# Altium footprint library Mercury_AD_BaseBoard_PCBLIB.PcbLib: 62 footprints (part 3 of 4)
Each footprint in its own frame and in the unit in brackets; x right, y up, seen from the top. Pads: shape width x height; smd on the part's side, far side on the other; paste and mask are expansions set on the pad; w line width, h text height; cw(c..) or ccw(c..) is an arc to the next point about the centre after c.
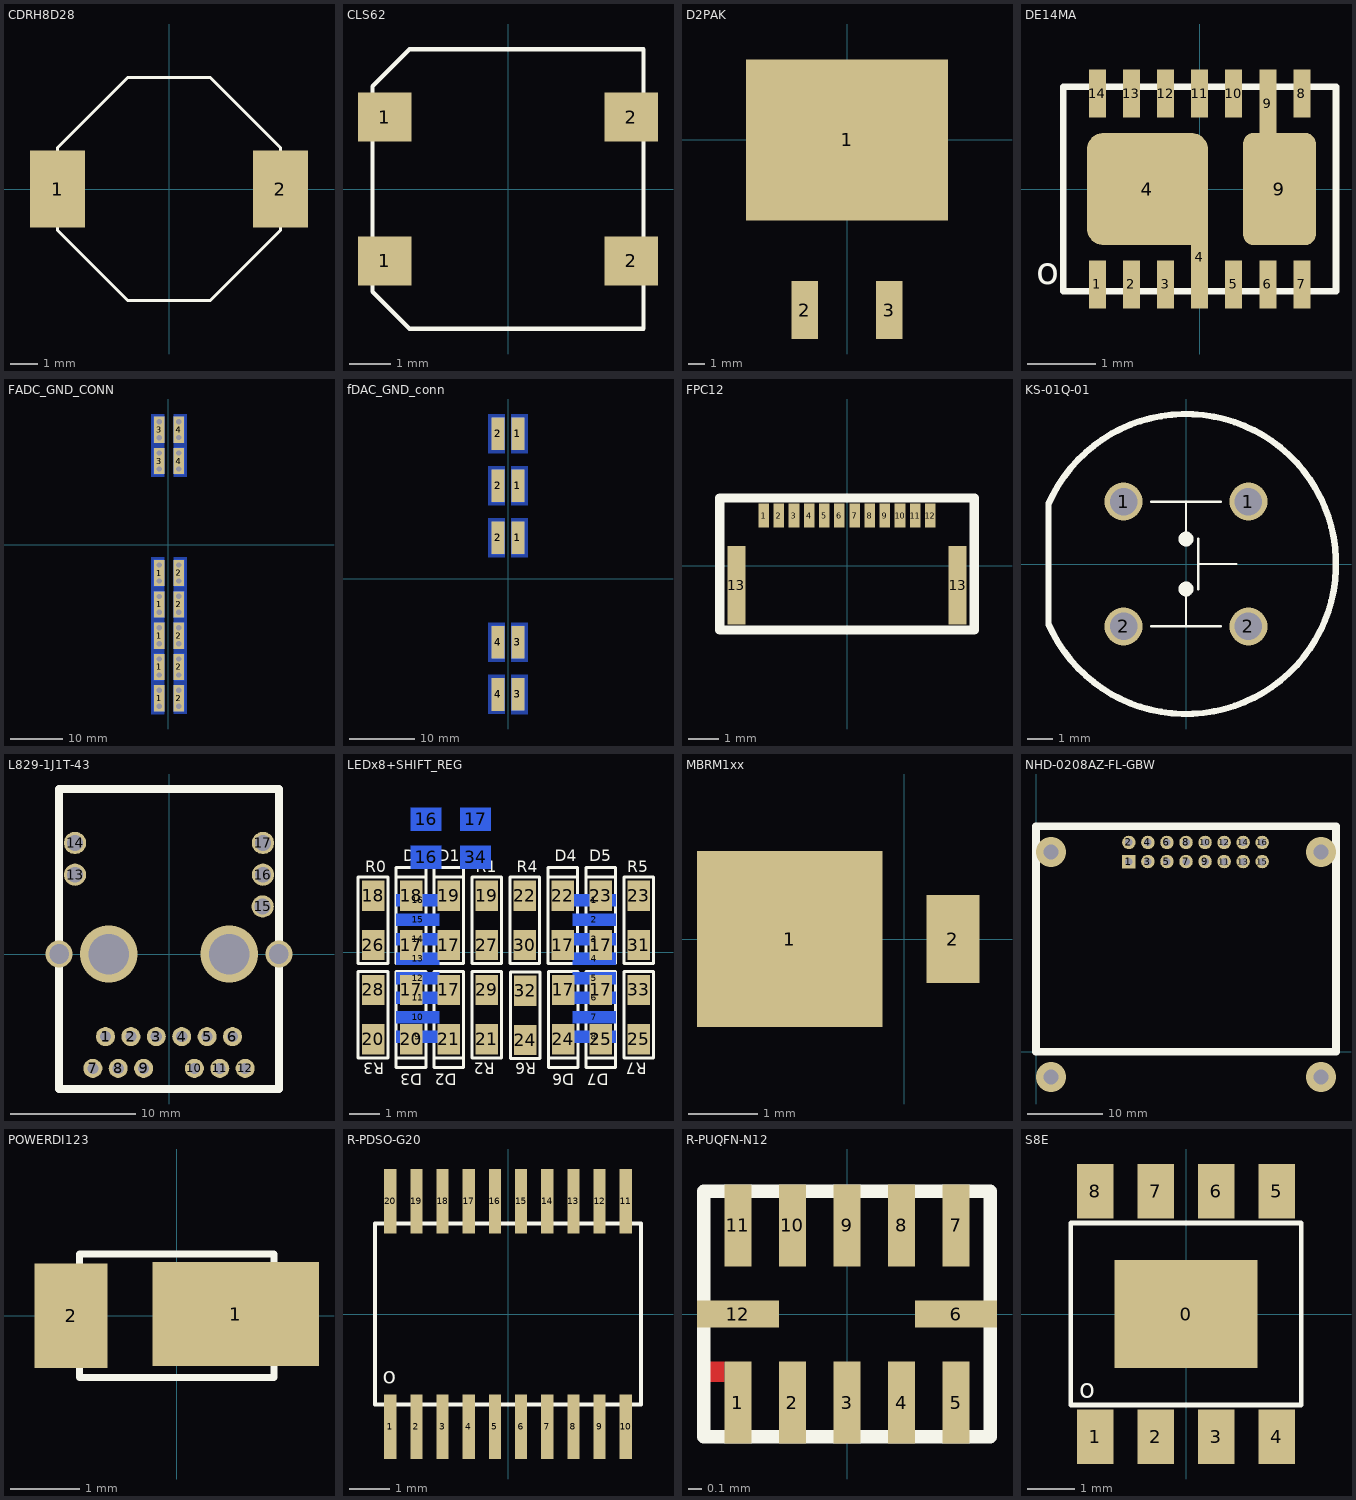
[diagram p2: the footprints below, top view; thin cyan lines are the x and y axes]

## CDRH8D28 [mm]
pads (2):
  rect 2x2.8 smd: 1(-4.05,0) 2(4.05,0)
Top Overlay:
  lines w0.1: -4.05,-1.5 -4.05,1.5 -1.5,4.05 1.5,4.05 4.05,1.5 4.05,-1.5 1.5,-4.05 -1.5,-4.05 -4.05,-1.5

## CLS62 [mm]
pads (4):
  rect 1.3x1.2 smd mask+0.07: 1(-3,-1.75) 1(-3,1.75) 2(3,-1.75) 2(3,1.75)
Top Overlay:
  lines w0.1: -3.3,-2.5 -3.3,2.5 -2.4,3.4 3.3,3.4 3.3,-3.4 -2.4,-3.4 -3.3,-2.5

## D2PAK [mm]
pads (3):
  rect 12.2x9.75 smd: 1(0,0)
  rect 1.6x3.5 smd: 2(-2.54,-10.275) 3(2.54,-10.275)

## DE14MA [mm]
pads (16):
  rect 0.25x0.7 smd mask+0.07: 1(-1.5,-1.4) 2(-1,-1.4) 3(-0.5,-1.4) 5(0.5,-1.4) 6(1,-1.4) 7(1.5,-1.4) 8(1.5,1.4) 10(0.5,1.4) 11(0,1.4) 12(-0.5,1.4) 13(-1,1.4) 14(-1.5,1.4)
  rrect30% 1.78x1.65 smd mask+0.07: 4(-0.765,0)
  rect 0.25x1.5 smd mask+0.07: 4(0,-1)
  rect 0.25x1 smd mask+0.07: 9(1,1.25)
  rrect30% 1.07x1.65 smd mask+0.07: 9(1.17,0)
Top Overlay:
  lines w0.1: -2,-1.5 2,-1.5 2,1.5 -2,1.5 -2,-1.5
  text "o" at -2.4,-1.395 h0.4

## FADC_GND_CONN [mm]
pads (28):
  rect 2x5 smd: 1(-1.736,-23.412) 1(-1.736,-11.448) 1(-1.736,-29.4) 1(-1.736,-17.437) 1(-1.736,-5.448) 2(2.014,-29.398) 2(2.014,-23.403) 2(2.014,-17.434) 2(2.014,-11.44) 2(2.014,-5.44) 3(-1.736,15.953) 3(-1.736,21.953) 4(2.014,15.962) 4(2.014,21.962)
  rect 2x5 smd far side: 1(-1.736,-23.412) 1(-1.736,-11.448) 1(-1.736,-29.4) 1(-1.736,-17.437) 1(-1.736,-5.448) 2(2.014,-29.398) 2(2.014,-23.403) 2(2.014,-17.434) 2(2.014,-11.44) 2(2.014,-5.44) 3(-1.736,15.953) 3(-1.736,21.953) 4(2.014,15.962) 4(2.014,21.962)
via -1.736,14.437 diameter 1.5 hole 1
via 2.014,14.446 diameter 1.5 hole 1
via -1.736,17.488 diameter 1.5 hole 1
via 2.014,17.497 diameter 1.5 hole 1
via -1.736,20.438 diameter 1.5 hole 1
via 2.014,20.446 diameter 1.5 hole 1
via -1.736,23.489 diameter 1.5 hole 1
via 2.014,23.497 diameter 1.5 hole 1
via 2.014,-12.956 diameter 1.5 hole 1
via 2.014,-9.905 diameter 1.5 hole 1
via -1.736,-12.964 diameter 1.5 hole 1
via -1.736,-9.913 diameter 1.5 hole 1
via 2.014,-6.955 diameter 1.5 hole 1
via 2.014,-3.905 diameter 1.5 hole 1
via 2.014,-21.868 diameter 1.5 hole 1
via 2.014,-24.919 diameter 1.5 hole 1
via -1.736,-6.964 diameter 1.5 hole 1
via -1.736,-3.913 diameter 1.5 hole 1
via 2.014,-18.95 diameter 1.5 hole 1
via 2.014,-15.899 diameter 1.5 hole 1
via -1.736,-30.916 diameter 1.5 hole 1
via -1.736,-27.865 diameter 1.5 hole 1
via 2.014,-30.913 diameter 1.5 hole 1
via 2.014,-27.863 diameter 1.5 hole 1
via -1.736,-24.927 diameter 1.5 hole 1
via -1.736,-21.877 diameter 1.5 hole 1
via -1.736,-18.953 diameter 1.5 hole 1
via -1.736,-15.902 diameter 1.5 hole 1
Bottom Layer:
  pour cut-out: -0.736,-26.901 -0.736,-26.4 -3.236,-26.4 -3.236,-32.4 -0.736,-32.4
  pour cut-out: -0.736,-20.913 -0.736,-20.412 -3.236,-20.412 -3.236,-26.412 -0.736,-26.412
  pour cut-out: -0.736,-14.938 -0.736,-14.437 -3.236,-14.437 -3.236,-20.437 -0.736,-20.437
  pour cut-out: -0.736,-8.949 -0.736,-8.448 -3.236,-8.448 -3.236,-14.448 -0.736,-14.448
  pour cut-out: -0.736,-2.949 -0.736,-2.448 -3.236,-2.448 -3.236,-8.448 -0.736,-8.448
  pour cut-out: -0.736,18.452 -0.736,18.953 -3.236,18.953 -3.236,12.953 -0.736,12.953
  pour cut-out: -0.736,24.453 -0.736,24.954 -3.236,24.954 -3.236,18.954 -0.736,18.954
  pour cut-out: 1.014,19.463 1.014,18.962 3.514,18.962 3.514,24.962 1.014,24.962
  pour cut-out: 1.014,13.462 1.014,12.961 3.514,12.961 3.514,18.961 1.014,18.961
  pour cut-out: 1.014,-7.939 1.014,-8.44 3.514,-8.44 3.514,-2.44 1.014,-2.44
  pour cut-out: 1.014,-13.939 1.014,-14.44 3.514,-14.44 3.514,-8.44 1.014,-8.44
  pour cut-out: 1.014,-19.934 1.014,-20.435 3.514,-20.435 3.514,-14.435 1.014,-14.435
  pour cut-out: 1.014,-25.903 1.014,-26.404 3.514,-26.404 3.514,-20.404 1.014,-20.404
  pour cut-out: 1.014,-31.897 1.014,-32.398 3.514,-32.398 3.514,-26.398 1.014,-26.398

## fDAC_GND_conn [mm]
pads (20):
  rect 2x5 smd: 1(1.518,6.249) 1(1.518,14.249) 1(1.518,22.249) 2(-1.518,6.247) 2(-1.518,14.247) 2(-1.518,22.247) 3(1.518,-17.751) 3(1.518,-9.751) 4(-1.518,-17.753) 4(-1.518,-9.753)
  rect 2x5 smd far side: 1(1.518,6.249) 1(1.518,14.249) 1(1.518,22.249) 2(-1.518,6.251) 2(-1.518,14.251) 2(-1.518,22.251) 3(1.518,-17.751) 3(1.518,-9.751) 4(-1.518,-17.749) 4(-1.518,-9.749)
Bottom Layer:
  pour cut-out: 0.518,-12.25 0.518,-12.751 3.018,-12.751 3.018,-6.751 0.518,-6.751
  pour cut-out: 0.518,3.75 0.518,3.249 3.018,3.249 3.018,9.249 0.518,9.249
  pour cut-out: 0.518,11.75 0.518,11.249 3.018,11.249 3.018,17.249 0.518,17.249
  pour cut-out: 0.518,19.75 0.518,19.249 3.018,19.249 3.018,25.249 0.518,25.249
  pour cut-out: -0.518,24.75 -0.518,25.251 -3.018,25.251 -3.018,19.251 -0.518,19.251
  pour cut-out: -0.518,16.75 -0.518,17.251 -3.018,17.251 -3.018,11.251 -0.518,11.251
  pour cut-out: -0.518,8.75 -0.518,9.251 -3.018,9.251 -3.018,3.251 -0.518,3.251
  pour cut-out: -0.518,-7.25 -0.518,-6.749 -3.018,-6.749 -3.018,-12.749 -0.518,-12.749
  pour cut-out: -0.518,-15.25 -0.518,-14.749 -3.018,-14.749 -3.018,-20.749 -0.518,-20.749
  pour cut-out: 0.518,-20.25 0.518,-20.751 3.018,-20.751 3.018,-14.751 0.518,-14.751

## FPC12 [mm]
pads (14):
  rect 0.35x0.8 smd: 1(-2.75,1.65) 2(-2.25,1.65) 3(-1.75,1.65) 4(-1.25,1.65) 5(-0.75,1.65) 6(-0.25,1.65) 7(0.25,1.65) 8(0.75,1.65) 9(1.25,1.65) 10(1.75,1.65) 11(2.25,1.65) 12(2.75,1.65)
  rect 0.6x2.6 smd: 13(-3.65,-0.65) 13(3.65,-0.65)
Top Overlay:
  lines w0.3: 4.2,2.225 4.2,-2.125 -4.2,-2.125 -4.2,2.225 4.21,2.225

## KS-01Q-01 [mm]
pads (4):
  round 1.524 hole 1.1: 1(-2.5,2.5) 1(2.5,2.5) 2(-2.5,-2.5) 2(2.5,-2.5)
Top Overlay:
  circle w0.4: c0,-1 r0.1
  circle w0.4: c0,1 r0.1
  lines w0.1: -1.4,-2.5 1.4,-2.5 ; -1.4,2.5 1.4,2.5 ; 0,-2.5 0,-1 ; 0,1 0,2.5 ; 0.5,-1 0.5,1 ; 0.5,0 2,0
  lines w0.254: -5.5,-2.4 -5.5,2.4 ; -5.499,-2.4 ccw(c0,0) -5.499,2.4

## L829-1J1T-43 [mil]
pads (17):
  round 60 hole 35: 1(-200,-260) 2(-120,-260) 3(-40,-260) 4(40,-260) 5(120,-260) 6(200,-260) 7(-240,-360) 8(-160,-360) 9(-80,-360) 10(80,-360) 11(160,-360) 12(240,-360)
  round 70 hole 50: 13(-296,250) 14(-296,350) 15(295,150) 16(296,250) 17(296,350)
via -190,0 diameter 180 hole 128
via 190,0 diameter 180 hole 128
via -346,0 diameter 85 hole 62
via 346,0 diameter 85 hole 62
Top Overlay:
  lines w25: -346,-425 -346,520 346,520 346,-425 -346,-425

## LEDx8+SHIFT_REG [mil]
pads (52):
  rect 57.09x15.75 smd far side: 1(456.14,68.32) 4(456.14,-8.45)
  rect 57.09x15.75 smd far side mask+2.76: 2(456.14,42.73) 3(456.14,17.14) 5(456.14,-34.04) 6(456.14,-59.63) 7(456.14,-85.22) 8(456.14,-110.81) 9(223.86,-110.81) 10(223.86,-85.22) 11(223.86,-59.63) 12(223.86,-34.04) 13(223.86,-8.45) 14(223.86,17.14) 15(223.86,42.73) 16(223.86,68.32)
  rect 40x30 smd far side mask+2.76: 16(235,125) 16(235,175) 17(300,175) 34(300,125)
  rect 30x40 smd mask+2.76: 17(215.31,-49.59) 17(215.31,9.59) 17(264.69,-49.59) 17(264.69,9.59) 17(414.69,9.59) 17(415.31,-49.59) 17(464.69,-49.59) 17(464.69,9.59) 18(165.31,74.59) 18(215.31,74.59) 19(264.69,74.59) 19(314.69,74.59) 20(165.31,-114.59) 20(215.31,-114.59) 21(264.69,-114.59) 21(314.69,-114.59) 22(364.69,74.59) 22(414.69,74.59) 23(464.69,74.59) 23(514.68,74.59) 24(365.31,-115.41) 24(415.31,-114.59) 25(464.69,-114.59) 25(514.68,-114.59) 26(165.31,9.59) 27(314.69,9.59) 28(165.31,-49.59) 29(314.69,-49.59) 30(364.69,9.59) 31(514.68,9.59) 32(365.31,-50.41) 33(514.68,-49.59)
Top Overlay:
  lines w3.94: 195.63,-139.17 235,-139.17 ; 195.63,99.17 235,99.17 ; 245,-139.17 284.37,-139.17 ; 245,99.17 284.37,99.17 ; 395,99.17 434.37,99.17 ; 395.63,-139.17 435,-139.17 ; 445,-139.17 484.37,-139.17 ; 445,99.17 484.37,99.17 ; 145.63,-139.17 185,-139.17 185,-25 145.63,-25 145.63,-139.17 ; 145.63,-15 145.63,99.17 185,99.17 185,-15 145.63,-15 ; 195.63,-151.77 235,-151.77 235,-25 195.63,-25 195.63,-151.77 ; 195.63,-15 235,-15 235,111.77 195.63,111.77 195.63,-15 ; 245,-151.77 284.37,-151.77 284.37,-25 245,-25 245,-151.77 ; 245,-15 245,111.77 284.37,111.77 284.37,-15 245,-15 ; 295,-139.17 334.37,-139.17 334.37,-25 295,-25 295,-139.17 ; 295,-15 334.37,-15 334.37,99.17 295,99.17 295,-15 ; 345,-15 384.37,-15 384.37,99.17 345,99.17 345,-15 ; 345.63,-140 385,-140 385,-25.83 345.63,-25.83 345.63,-140 ; 395,-15 395,111.77 434.37,111.77 434.37,-15 395,-15 ; 395.63,-151.77 435,-151.77 435,-25 395.63,-25 395.63,-151.77 ; 445,-151.77 484.37,-151.77 484.37,-25 445,-25 445,-151.77 ; 445,-15 445,111.77 484.37,111.77 484.37,-15 445,-15 ; 495,-139.17 534.37,-139.17 534.37,-25 495,-25 495,-139.17 ; 495,-15 534.37,-15 534.37,99.17 495,99.17 495,-15
  text "R0" at 155,105 h15
  text "D0" at 205,120 h15
  text "D1" at 250,120 h15
  text "R1" at 300,105 h15
  text "R5" at 499.37,105 h15
  text "D5" at 449.37,120 h15
  text "D4" at 404.37,120 h15
  text "R4" at 354.37,105 h15
  text "R3" at 180,-145 h15
  text "D3" at 230,-160 h15
  text "D2" at 275,-160 h15
  text "R2" at 325,-145 h15
  text "R6" at 380,-145 h15
  text "D6" at 430,-160 h15
  text "D7" at 475,-160 h15
  text "R7" at 525,-145 h15
Bottom Overlay:
  lines w3.94: 210.41,105.31 210.41,144.69 324.59,144.69 324.59,105.31 210.41,105.31 ; 210.41,155.31 324.59,155.31 324.59,194.69 210.41,194.69 210.41,155.31 ; 252.4,-109.83 252.4,67.34 427.6,67.34 427.6,-109.83 252.4,-109.83
  text "U0" at 350,75 h15
  text "o" at 419.92,60.25 h15.75
  text "R8" at 330.41,164.69 h15
  text "C0" at 330.41,114.69 h15

## MBRM1xx [mil]
pads (2):
  rect 105.12x100 smd mask+2.76: 1(-65.06,0)
  rect 30x50 smd mask+2.76: 2(27.5,0)

## NHD-0208AZ-FL-GBW [mm] "8x2 LCD display"
pads (16):
  rect 1.8x1.8 hole 1: 1(12.38,25.33)
  round 1.8 hole 1: 2(12.38,27.87) 3(14.92,25.33) 4(14.92,27.87) 5(17.46,25.33) 6(17.46,27.87) 7(20,25.33) 8(20,27.87) 9(22.54,25.33) 10(22.54,27.87) 11(25.08,25.33) 12(25.08,27.87) 13(27.62,25.33) 14(27.62,27.87) 15(30.16,25.33) 16(30.16,27.87)
via 38,26.6 diameter 4 hole 2
via 38,-3.4 diameter 4 hole 2
via 2,26.6 diameter 4 hole 2
via 2,-3.4 diameter 4 hole 2
Top Overlay:
  lines w1: 0,0 40,0 40,30 0,30 0,0

## POWERDI123 [mm]
pads (2):
  rect 2.4x1.5 smd mask+0.07: 1(0.85,0.025)
  rect 1.05x1.5 smd mask+0.07: 2(-1.525,0)
Top Overlay:
  lines w0.1: -1.4,-0.89 1.4,-0.89 1.4,0.89 -1.4,0.89 -1.4,-0.89

## R-PDSO-G20 [mm]
pads (20):
  rect 0.3x1.6 smd mask+0.07: 1(-2.925,-2.8) 2(-2.275,-2.8) 3(-1.625,-2.8) 4(-0.975,-2.8) 5(-0.325,-2.8) 6(0.325,-2.8) 7(0.975,-2.8) 8(1.625,-2.8) 9(2.275,-2.8) 10(2.925,-2.8) 11(2.925,2.8) 12(2.275,2.8) 13(1.625,2.8) 14(0.975,2.8) 15(0.325,2.8) 16(-0.325,2.8) 17(-0.975,2.8) 18(-1.625,2.8) 19(-2.275,2.8) 20(-2.925,2.8)
Top Overlay:
  lines w0.1: -3.3,-2.25 3.3,-2.25 3.3,2.25 -3.3,2.25 -3.3,-2.25
  text "o" at -3.105,-1.735 h0.4

## R-PUQFN-N12 [mm]
pads (12):
  rect 0.2x0.6 smd mask+0.05: 1(-0.8,-0.65) 2(-0.4,-0.65) 3(0,-0.65) 4(0.4,-0.65) 5(0.8,-0.65) 7(0.8,0.65) 8(0.4,0.65) 9(0,0.65) 10(-0.4,0.65) 11(-0.8,0.65)
  rect 0.6x0.2 smd mask+0.05: 6(0.8,0) 12(-0.8,0)
Top Layer:
  rectangle: -1.1,-0.5 -0.9,-0.35
Top Overlay:
  lines w0.1: -1.05,-0.9 1.05,-0.9 1.05,0.9 -1.05,0.9 -1.05,-0.9

## S8E [mil]
pads (9):
  rect 118x89 smd mask+2.76: 0(0,0)
  rect 30x45 smd mask+2.76: 1(-75,-101.25) 2(-25,-101.25) 3(25,-101.25) 4(75,-101.25) 5(75,101.25) 6(25,101.25) 7(-25,101.25) 8(-75,101.25)
Top Overlay:
  lines w3.94: -95,-75 -95,75 95,75 95,-75 -95,-75
  text "o" at -88,-69 h15.75